# EAGLE library part TMLM_04109 (library Labops_Lib_AH)
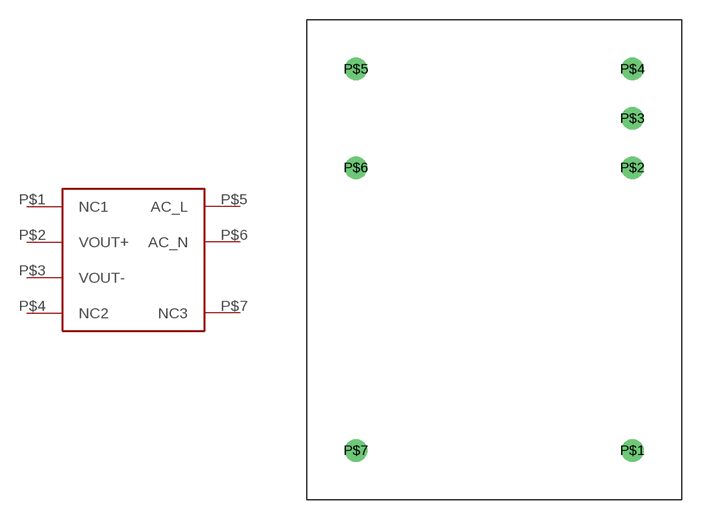
[diagram p38: symbol with the pads of TMLM04; footprint TMLM04]

Designator prefix U

## TMLM_04109  [TMLM04]
P$1  NC1
P$2  VOUT+
P$3  VOUT-
P$4  NC2
P$5  AC_L
P$6  AC_N
P$7  NC3

## Footprint TMLM04 (pad centres in mm)
drill 0.7 pad 1.7: P$1 21,-25.25; P$2 21,-3.75; P$3 21,0; P$4 21,3.75; P$5 0,3.75; P$6 0,-3.75; P$7 0,-25.25